# Altium footprint library con-molex-micro-fit-3_0.PCBLIB: 194 footprints (part 4 of 13)
Each footprint in its own frame and in the unit in brackets; x right, y up, seen from the top. Pads: shape width x height; smd on the part's side, far side on the other; paste and mask are expansions set on the pad; w line width, h text height; cw(c..) or ccw(c..) is an arc to the next point about the centre after c.
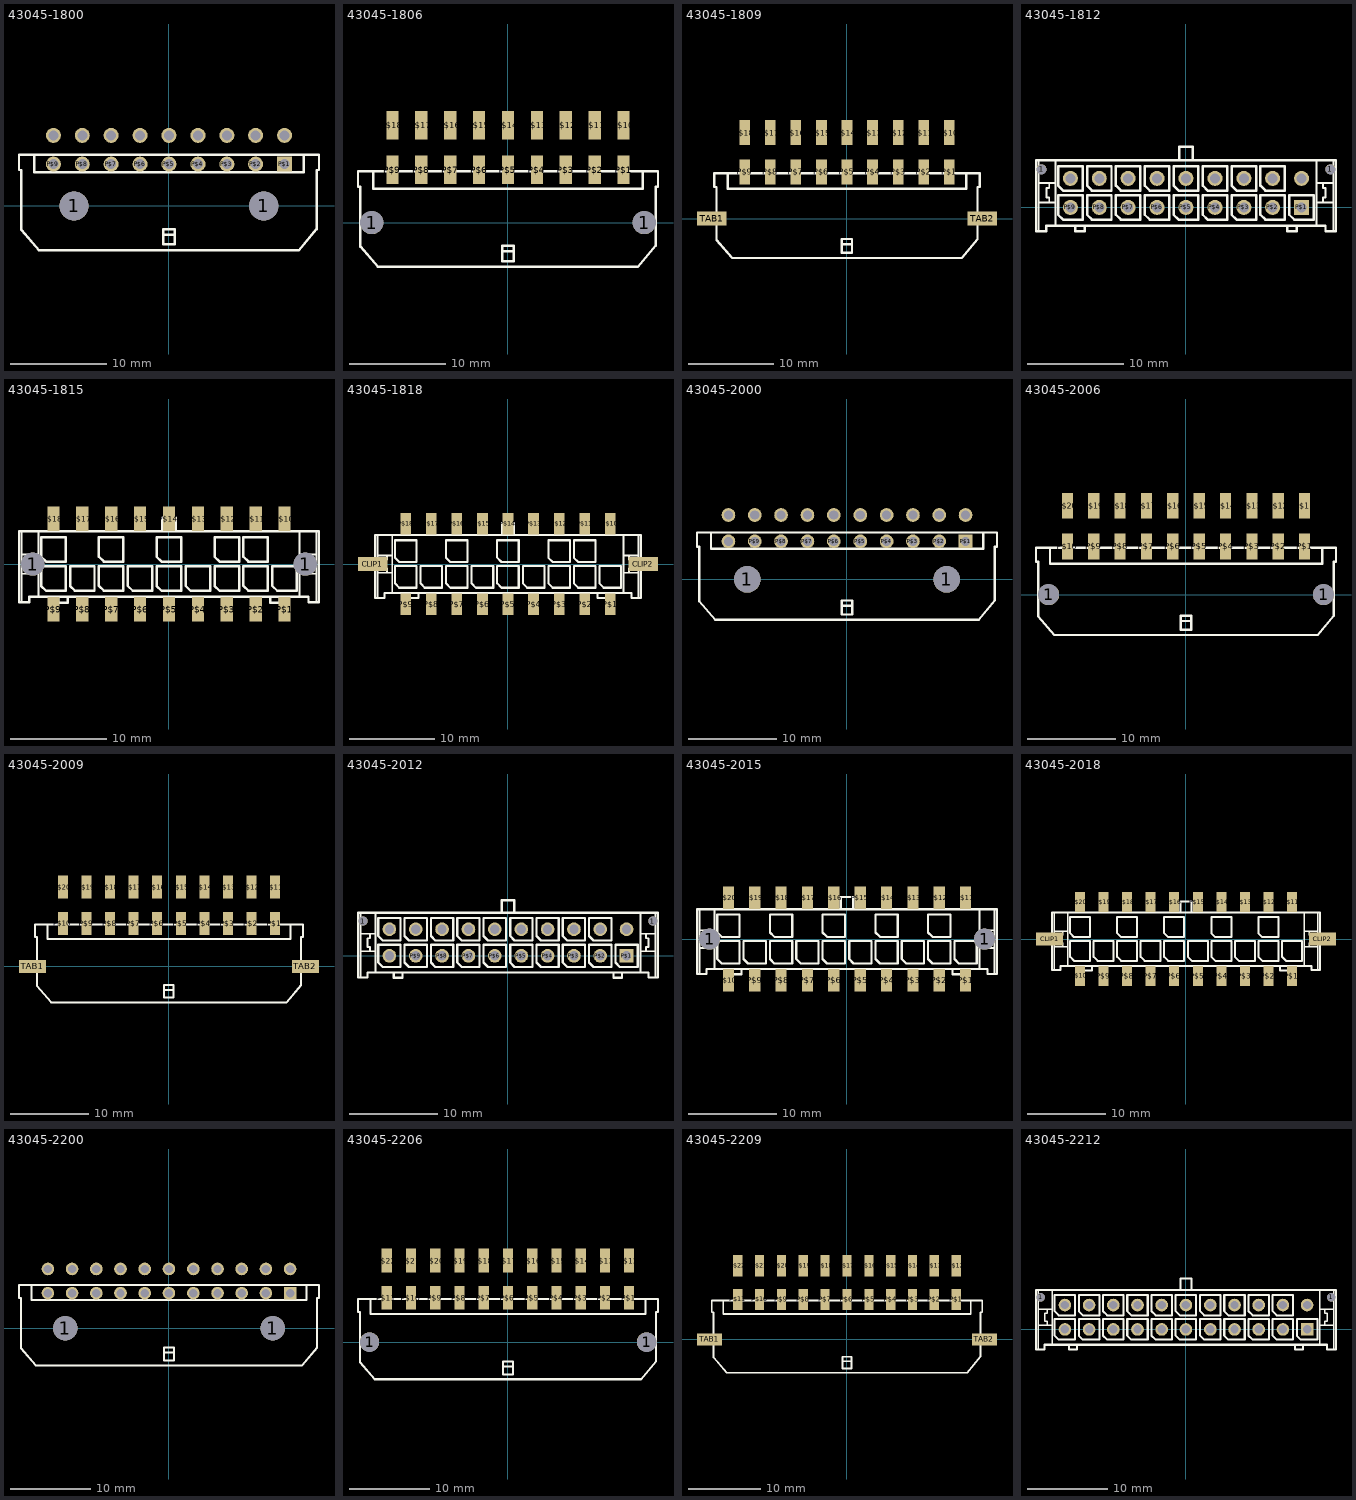
[diagram p3: the footprints below, top view; thin cyan lines are the x and y axes]

## 43045-1800 [mil]
pads (20):
  round 119 hole 119: 1(-387.8,0) 1(388,0)
  rect 61.5x61.5 hole 41: P$1(473,171)
  round 61.5 hole 41: P$2(355,171) P$3(237,171) P$4(119,171) P$5(0,171) P$6(-118.11,171) P$7(-236.22,171) P$8(-354.33,171) P$9(-472.44,171) P$10(473,289) P$11(355,289) P$12(237,289) P$13(119,289) P$14(0,289) P$15(-118.11,289) P$16(-236.22,289) P$17(-354.33,289) P$18(-472.44,289)
Top Overlay:
  lines w5: -190.16,210 -551.18,210 -189.96,210
  lines w10: -551.18,210 -613.19,210 -613.19,147 -603.35,147 -603.35,-98.43 -531.5,-181.1 532,-181.1 604,-94.49 604,147 614,147 614,210 552,210 ; -551.18,210 552,210 ; -551.18,210 -551.18,138 552,138 552,210 ; -23.62,-118.11 -23.62,-157.48 24,-157.48 24,-118.11 ; -23.62,-118.11 -23.62,-94.49 24,-94.49 24,-118.11 ; -23.62,-118.11 24,-118.11

## 43045-1806 [mil]
pads (20):
  round 95 hole 95: 1(-557.09,0) 1(558,0)
  rect 50x115 smd: P$1(473,216) P$2(355,216) P$3(237,216) P$4(119,216) P$5(0,216) P$6(-118.11,216) P$7(-236.22,216) P$8(-354.33,216) P$9(-472.44,216) P$10(473,398) P$11(355,398) P$12(237,398) P$13(119,398) P$14(0,398) P$15(-118.11,398) P$16(-236.22,398) P$17(-354.33,398) P$18(-472.44,398)
Top Overlay:
  lines w5: -190.16,210 -551.18,210 -189.96,210
  lines w10: -551.18,210 -613.19,210 -613.19,147 -603.35,147 -603.35,-98.43 -531.5,-181.1 532,-181.1 604,-94.49 604,147 614,147 614,210 552,210 ; -551.18,210 552,210 ; -551.18,210 -551.18,138 552,138 552,210 ; -23.62,-118.11 -23.62,-157.48 24,-157.48 24,-118.11 ; -23.62,-118.11 -23.62,-94.49 24,-94.49 24,-118.11 ; -23.62,-118.11 24,-118.11

## 43045-1809 [mil]
pads (20):
  rect 50x115 smd: P$1(473,216) P$2(355,216) P$3(237,216) P$4(119,216) P$5(0,216) P$6(-118.11,216) P$7(-236.22,216) P$8(-354.33,216) P$9(-472.44,216) P$10(473,398) P$11(355,398) P$12(237,398) P$13(119,398) P$14(0,398) P$15(-118.11,398) P$16(-236.22,398) P$17(-354.33,398) P$18(-472.44,398)
  rect 136x65 smd: TAB1(-625.2,0) TAB2(626,0)
Top Overlay:
  lines w5: -190.16,210 -551.18,210 -189.96,210
  lines w10: -551.18,210 -613.19,210 -613.19,147 -603.35,147 -603.35,-98.43 -531.5,-181.1 532,-181.1 604,-94.49 604,147 614,147 614,210 552,210 ; -551.18,210 552,210 ; -551.18,210 -551.18,138 552,138 552,210 ; -23.62,-118.11 -23.62,-157.48 24,-157.48 24,-118.11 ; -23.62,-118.11 -23.62,-94.49 24,-94.49 24,-118.11 ; -23.62,-118.11 24,-118.11

## 43045-1812 [mil]
pads (20):
  round 41 hole 41: 1(-590.55,156) 1(591,156)
  rect 61.5x61.5 hole 41: P$1(473,0)
  round 61.5 hole 41: P$2(355,0) P$3(237,0) P$4(119,0) P$5(0,0) P$6(-118.11,0) P$7(-236.22,0) P$8(-354.33,0) P$9(-472.44,0) P$10(473,119) P$11(355,119) P$12(237,119) P$13(119,119) P$14(0,119) P$15(-118.11,119) P$16(-236.22,119) P$17(-354.33,119) P$18(-472.44,119)
Top Overlay:
  lines w8: -602.36,-97.24 -602.36,20 ; -602.36,193 -602.36,99 ; -534.25,-74.8 -534.25,20 ; -534.25,193 -534.25,99 ; 535,-74.8 535,20 ; 535,193 535,99 ; 603,-97.24 603,20 ; 603,193 603,99 ; -602.36,20 -602.36,99 ; -602.36,20 -559.06,20 ; -602.36,99 -559.06,99 ; -559.06,20 -534.25,20 ; -559.06,20 -559.06,40 -570.87,40 -570.87,79 -559.06,79 -559.06,99 ; -559.06,99 -534.25,99 ; -534.25,20 -534.25,99 ; 535,20 535,99 ; 535,20 560,20 ; 535,99 560,99 ; 560,20 603,20 ; 560,20 560,40 571,40 571,79 560,79 560,99 ; 560,99 603,99 ; 603,20 603,99
  lines w10: -452.76,-74.8 -413.39,-74.8 ; -452.76,-74.8 -534.25,-74.8 -570.87,-74.8 -570.87,-97.24 -602.36,-97.24 -613.19,-97.24 -613.19,193 -602.36,193 -534.25,193 -27.56,193 ; -452.76,-74.8 -452.76,-98.43 -413.39,-98.43 -413.39,-74.8 ; -413.39,-74.8 414,-74.8 ; -27.56,193 28,193 ; -27.56,193 -27.56,249 28,249 28,193 ; 28,193 535,193 603,193 614,193 614,-97.24 603,-97.24 571,-97.24 571,-74.8 535,-74.8 453,-74.8 ; 414,-74.8 453,-74.8 ; 414,-74.8 414,-98.43 453,-98.43 453,-74.8 ; -522.44,-30 -522.44,50 -422.44,50 -422.44,-50 -502.44,-50 -522.44,-30 ; -522.44,89 -522.44,169 -422.44,169 -422.44,69 -502.44,69 -522.44,89 ; -404.33,-30 -404.33,50 -304.33,50 -304.33,-50 -384.33,-50 -404.33,-30 ; -404.33,89 -404.33,169 -304.33,169 -304.33,69 -384.33,69 -404.33,89 ; -286.22,-30 -286.22,50 -186.22,50 -186.22,-50 -266.22,-50 -286.22,-30 ; -286.22,89 -286.22,169 -186.22,169 -186.22,69 -266.22,69 -286.22,89 ; -168.11,-30 -168.11,50 -68.11,50 -68.11,-50 -148.11,-50 -168.11,-30 ; -168.11,89 -168.11,169 -68.11,169 -68.11,69 -148.11,69 -168.11,89 ; -50,-30 -50,50 50,50 50,-50 -30,-50 -50,-30 ; -50,89 -50,169 50,169 50,69 -30,69 -50,89 ; 69,-30 69,50 169,50 169,-50 89,-50 69,-30 ; 69,89 69,169 169,169 169,69 89,69 69,89 ; 187,-30 187,50 287,50 287,-50 207,-50 187,-30 ; 187,89 187,169 287,169 287,69 207,69 187,89 ; 305,-30 305,50 405,50 405,-50 325,-50 305,-30 ; 305,89 305,169 405,169 405,69 325,69 305,89 ; 423,-30 423,50 523,50 523,-50 443,-50 423,-30
Bottom Overlay:
  lines w10: 423,69 423,169 523,169 523,89 503,69 423,69

## 43045-1815 [mil]
pads (20):
  round 95 hole 95: 1(-557.09,0) 1(558,0)
  rect 50x100 smd: P$1(473,-185.04) P$2(355,-185.04) P$3(237,-185.04) P$4(119,-185.04) P$5(0,-185.04) P$6(-118.11,-185.04) P$7(-236.22,-185.04) P$8(-354.33,-185.04) P$9(-472.44,-185.04) P$10(473,186) P$11(355,186) P$12(237,186) P$13(119,186) P$14(0,186) P$15(-118.11,186) P$16(-236.22,186) P$17(-354.33,186) P$18(-472.44,186)
Top Overlay:
  lines w8: -602.36,-156.3 -602.36,-39.37 ; -602.36,134 -602.36,40 ; -534.25,-133.86 -534.25,-39.37 ; -534.25,134 -534.25,40 ; 535,-133.86 535,-39.37 ; 535,134 535,40 ; 603,-156.3 603,-39.37 ; 603,134 603,40 ; -602.36,-39.37 -602.36,40 ; -602.36,-39.37 -559.06,-39.37 ; -602.36,40 -559.06,40 ; -559.06,-39.37 -534.25,-39.37 ; -559.06,-39.37 -559.06,-19.68 -570.87,-19.68 -570.87,20 -559.06,20 -559.06,40 ; -559.06,40 -534.25,40 ; -534.25,-39.37 -534.25,40 ; 535,-39.37 535,40 ; 535,-39.37 560,-39.37 ; 535,40 560,40 ; 560,-39.37 603,-39.37 ; 560,-39.37 560,-19.68 571,-19.68 571,20 560,20 560,40 ; 560,40 603,40 ; 603,-39.37 603,40
  lines w10: -452.76,-133.86 -413.39,-133.86 ; -452.76,-133.86 -534.25,-133.86 -570.87,-133.86 -570.87,-156.3 -602.36,-156.3 -613.19,-156.3 -613.19,134 -602.36,134 -534.25,134 -27.56,134 ; -452.76,-133.86 -452.76,-157.48 -413.39,-157.48 -413.39,-133.86 ; -413.39,-133.86 414,-133.86 ; -27.56,134 28,134 ; -27.56,134 -27.56,189 28,189 28,134 ; 28,134 535,134 603,134 614,134 614,-156.3 603,-156.3 571,-156.3 571,-133.86 535,-133.86 453,-133.86 ; 414,-133.86 453,-133.86 ; 414,-133.86 414,-157.48 453,-157.48 453,-133.86 ; -522.44,-89.06 -522.44,-9.06 -422.44,-9.06 -422.44,-109.06 -502.44,-109.06 -522.44,-89.06 ; -522.44,30 -522.44,110 -422.44,110 -422.44,10 -502.44,10 -522.44,30 ; -404.33,-89.06 -404.33,-9.06 -304.33,-9.06 -304.33,-109.06 -384.33,-109.06 -404.33,-89.06 ; -286.22,-89.06 -286.22,-9.06 -186.22,-9.06 -186.22,-109.06 -266.22,-109.06 -286.22,-89.06 ; -286.22,30 -286.22,110 -186.22,110 -186.22,10 -266.22,10 -286.22,30 ; -168.11,-89.06 -168.11,-9.06 -68.11,-9.06 -68.11,-109.06 -148.11,-109.06 -168.11,-89.06 ; -50,-89.06 -50,-9.06 50,-9.06 50,-109.06 -30,-109.06 -50,-89.06 ; -50,30 -50,110 50,110 50,10 -30,10 -50,30 ; 69,-89.06 69,-9.06 169,-9.06 169,-109.06 89,-109.06 69,-89.06 ; 187,-89.06 187,-9.06 287,-9.06 287,-109.06 207,-109.06 187,-89.06 ; 187,30 187,110 287,110 287,10 207,10 187,30 ; 305,-89.06 305,-9.06 405,-9.06 405,-109.06 325,-109.06 305,-89.06 ; 305,30 305,110 405,110 405,10 325,10 305,30 ; 423,-89.06 423,-9.06 523,-9.06 523,-109.06 443,-109.06 423,-89.06
Bottom Overlay:
  lines w10: -404.33,10 -404.33,110 -304.33,110 -304.33,30 -324.33,10 -404.33,10 ; -168.11,10 -168.11,110 -68.11,110 -68.11,30 -88.11,10 -168.11,10 ; 69,10 69,110 169,110 169,30 149,10 69,10 ; 423,10 423,110 523,110 523,30 503,10 423,10

## 43045-1818 [mil]
pads (20):
  rect 136x65 smd: CLIP1(-625.2,0) CLIP2(626,0)
  rect 50x100 smd: P$1(473,-185.04) P$2(355,-185.04) P$3(237,-185.04) P$4(119,-185.04) P$5(0,-185.04) P$6(-118.11,-185.04) P$7(-236.22,-185.04) P$8(-354.33,-185.04) P$9(-472.44,-185.04) P$10(473,186) P$11(355,186) P$12(237,186) P$13(119,186) P$14(0,186) P$15(-118.11,186) P$16(-236.22,186) P$17(-354.33,186) P$18(-472.44,186)
Top Overlay:
  lines w8: -602.36,-156.3 -602.36,-39.37 ; -602.36,134 -602.36,40 ; -534.25,-133.86 -534.25,-39.37 ; -534.25,134 -534.25,40 ; 535,-133.86 535,-39.37 ; 535,134 535,40 ; 603,-156.3 603,-39.37 ; 603,134 603,40 ; -602.36,-39.37 -602.36,40 ; -602.36,-39.37 -559.06,-39.37 ; -602.36,40 -559.06,40 ; -559.06,-39.37 -534.25,-39.37 ; -559.06,-39.37 -559.06,-19.68 -570.87,-19.68 -570.87,20 -559.06,20 -559.06,40 ; -559.06,40 -534.25,40 ; -534.25,-39.37 -534.25,40 ; 535,-39.37 535,40 ; 535,-39.37 560,-39.37 ; 535,40 560,40 ; 560,-39.37 603,-39.37 ; 560,-39.37 560,-19.68 571,-19.68 571,20 560,20 560,40 ; 560,40 603,40 ; 603,-39.37 603,40
  lines w10: -452.76,-133.86 -413.39,-133.86 ; -452.76,-133.86 -534.25,-133.86 -570.87,-133.86 -570.87,-156.3 -602.36,-156.3 -613.19,-156.3 -613.19,134 -602.36,134 -534.25,134 -27.56,134 ; -452.76,-133.86 -452.76,-157.48 -413.39,-157.48 -413.39,-133.86 ; -413.39,-133.86 414,-133.86 ; -27.56,134 28,134 ; -27.56,134 -27.56,189 28,189 28,134 ; 28,134 535,134 603,134 614,134 614,-156.3 603,-156.3 571,-156.3 571,-133.86 535,-133.86 453,-133.86 ; 414,-133.86 453,-133.86 ; 414,-133.86 414,-157.48 453,-157.48 453,-133.86 ; -522.44,-89.06 -522.44,-9.06 -422.44,-9.06 -422.44,-109.06 -502.44,-109.06 -522.44,-89.06 ; -522.44,30 -522.44,110 -422.44,110 -422.44,10 -502.44,10 -522.44,30 ; -404.33,-89.06 -404.33,-9.06 -304.33,-9.06 -304.33,-109.06 -384.33,-109.06 -404.33,-89.06 ; -286.22,-89.06 -286.22,-9.06 -186.22,-9.06 -186.22,-109.06 -266.22,-109.06 -286.22,-89.06 ; -286.22,30 -286.22,110 -186.22,110 -186.22,10 -266.22,10 -286.22,30 ; -168.11,-89.06 -168.11,-9.06 -68.11,-9.06 -68.11,-109.06 -148.11,-109.06 -168.11,-89.06 ; -50,-89.06 -50,-9.06 50,-9.06 50,-109.06 -30,-109.06 -50,-89.06 ; -50,30 -50,110 50,110 50,10 -30,10 -50,30 ; 69,-89.06 69,-9.06 169,-9.06 169,-109.06 89,-109.06 69,-89.06 ; 187,-89.06 187,-9.06 287,-9.06 287,-109.06 207,-109.06 187,-89.06 ; 187,30 187,110 287,110 287,10 207,10 187,30 ; 305,-89.06 305,-9.06 405,-9.06 405,-109.06 325,-109.06 305,-89.06 ; 305,30 305,110 405,110 405,10 325,10 305,30 ; 423,-89.06 423,-9.06 523,-9.06 523,-109.06 443,-109.06 423,-89.06
Bottom Overlay:
  lines w10: -404.33,10 -404.33,110 -304.33,110 -304.33,30 -324.33,10 -404.33,10 ; -168.11,10 -168.11,110 -68.11,110 -68.11,30 -88.11,10 -168.11,10 ; 69,10 69,110 169,110 169,30 149,10 69,10 ; 423,10 423,110 523,110 523,30 503,10 423,10

## 43045-2000 [mil]
pads (22):
  round 119 hole 119: 1(-446.85,0) 1(447,0)
  rect 61.5x61.5 hole 41: P$1(532,171)
  round 61.5 hole 41: P$2(414,171) P$3(296,171) P$4(178,171) P$5(60,171) P$6(-59.06,171) P$7(-177.17,171) P$8(-295.28,171) P$9(-413.39,171) P$10(-531.5,171) P$11(532,289) P$12(414,289) P$13(296,289) P$14(178,289) P$15(60,289) P$16(-59.06,289) P$17(-177.17,289) P$18(-295.28,289) P$19(-413.39,289) P$20(-531.5,289)
Top Overlay:
  lines w5: -190.16,210 -610.24,210 -189.96,210
  lines w10: -610.24,210 -672.44,210 -672.44,147 -662.4,147 -662.4,-98.43 -590.55,-181.1 591,-181.1 663,-94.49 663,147 673,147 673,210 611,210 ; -610.24,210 611,210 ; -610.24,210 -610.24,138 611,138 611,210 ; -23.62,-118.11 -23.62,-157.48 24,-157.48 24,-118.11 ; -23.62,-118.11 -23.62,-94.49 24,-94.49 24,-118.11 ; -23.62,-118.11 24,-118.11

## 43045-2006 [mil]
pads (22):
  round 95 hole 95: 1(-616.14,0) 1(617,0)
  rect 50x115 smd: P$1(532,216) P$2(414,216) P$3(296,216) P$4(178,216) P$5(60,216) P$6(-59.06,216) P$7(-177.17,216) P$8(-295.28,216) P$9(-413.39,216) P$10(-531.5,216) P$11(532,398) P$12(414,398) P$13(296,398) P$14(178,398) P$15(60,398) P$16(-59.06,398) P$17(-177.17,398) P$18(-295.28,398) P$19(-413.39,398) P$20(-531.5,398)
Top Overlay:
  lines w5: -190.16,210 -610.24,210 -189.96,210
  lines w10: -610.24,210 -672.44,210 -672.44,147 -662.4,147 -662.4,-98.43 -590.55,-181.1 591,-181.1 663,-94.49 663,147 673,147 673,210 611,210 ; -610.24,210 611,210 ; -610.24,210 -610.24,138 611,138 611,210 ; -23.62,-118.11 -23.62,-157.48 24,-157.48 24,-118.11 ; -23.62,-118.11 -23.62,-94.49 24,-94.49 24,-118.11 ; -23.62,-118.11 24,-118.11

## 43045-2009 [mil]
pads (22):
  rect 50x115 smd: P$1(532,216) P$2(414,216) P$3(296,216) P$4(178,216) P$5(60,216) P$6(-59.06,216) P$7(-177.17,216) P$8(-295.28,216) P$9(-413.39,216) P$10(-531.5,216) P$11(532,398) P$12(414,398) P$13(296,398) P$14(178,398) P$15(60,398) P$16(-59.06,398) P$17(-177.17,398) P$18(-295.28,398) P$19(-413.39,398) P$20(-531.5,398)
  rect 136x65 smd: TAB1(-684.25,0) TAB2(685,0)
Top Overlay:
  lines w5: -190.16,210 -610.24,210 -189.96,210
  lines w10: -610.24,210 -672.44,210 -672.44,147 -662.4,147 -662.4,-98.43 -590.55,-181.1 591,-181.1 663,-94.49 663,147 673,147 673,210 611,210 ; -610.24,210 611,210 ; -610.24,210 -610.24,138 611,138 611,210 ; -23.62,-118.11 -23.62,-157.48 24,-157.48 24,-118.11 ; -23.62,-118.11 -23.62,-94.49 24,-94.49 24,-118.11 ; -23.62,-118.11 24,-118.11

## 43045-2012 [mil]
pads (22):
  round 41 hole 41: 1(-649.61,156) 1(650,156)
  rect 61.5x61.5 hole 41: P$1(532,0)
  round 61.5 hole 41: P$2(414,0) P$3(296,0) P$4(178,0) P$5(60,0) P$6(-59.06,0) P$7(-177.17,0) P$8(-295.28,0) P$9(-413.39,0) P$10(-531.5,0) P$11(532,119) P$12(414,119) P$13(296,119) P$14(178,119) P$15(60,119) P$16(-59.06,119) P$17(-177.17,119) P$18(-295.28,119) P$19(-413.39,119) P$20(-531.5,119)
Top Overlay:
  drawing of 156 lines, arcs and shapes, not listed
Bottom Overlay:
  lines w10: 482,69 482,169 582,169 582,89 562,69 482,69

## 43045-2015 [mil]
pads (22):
  round 95 hole 95: 1(-616.14,0) 1(617,0)
  rect 50x100 smd: P$1(532,-185.04) P$2(414,-185.04) P$3(296,-185.04) P$4(178,-185.04) P$5(60,-185.04) P$6(-59.06,-185.04) P$7(-177.17,-185.04) P$8(-295.28,-185.04) P$9(-413.39,-185.04) P$10(-531.5,-185.04) P$11(532,186) P$12(414,186) P$13(296,186) P$14(178,186) P$15(60,186) P$16(-59.06,186) P$17(-177.17,186) P$18(-295.28,186) P$19(-413.39,186) P$20(-531.5,186)
Top Overlay:
  lines w8: -661.42,-156.3 -661.42,-39.37 ; -661.42,134 -661.42,40 ; -593.31,-133.86 -593.31,-39.37 ; -593.31,134 -593.31,40 ; 594,-133.86 594,-39.37 ; 594,134 594,40 ; 662,-156.3 662,-39.37 ; 662,134 662,40 ; -661.42,-39.37 -661.42,40 ; -661.42,-39.37 -618.11,-39.37 ; -661.42,40 -618.11,40 ; -618.11,-39.37 -593.31,-39.37 ; -618.11,-39.37 -618.11,-19.68 -629.92,-19.68 -629.92,20 -618.11,20 -618.11,40 ; -618.11,40 -593.31,40 ; -593.31,-39.37 -593.31,40 ; 594,-39.37 594,40 ; 594,-39.37 619,-39.37 ; 594,40 619,40 ; 619,-39.37 662,-39.37 ; 619,-39.37 619,-19.68 630,-19.68 630,20 619,20 619,40 ; 619,40 662,40 ; 662,-39.37 662,40
  lines w10: -511.81,-133.86 -472.44,-133.86 ; -511.81,-133.86 -593.31,-133.86 -629.92,-133.86 -629.92,-156.3 -661.42,-156.3 -672.24,-156.3 -672.24,134 -661.42,134 -593.31,134 -27.56,134 ; -511.81,-133.86 -511.81,-157.48 -472.44,-157.48 -472.44,-133.86 ; -472.44,-133.86 473,-133.86 ; -27.56,134 28,134 ; -27.56,134 -27.56,189 28,189 28,134 ; 28,134 594,134 662,134 673,134 673,-156.3 662,-156.3 630,-156.3 630,-133.86 594,-133.86 512,-133.86 ; 473,-133.86 512,-133.86 ; 473,-133.86 473,-157.48 512,-157.48 512,-133.86 ; -581.5,-89.06 -581.5,-9.06 -481.5,-9.06 -481.5,-109.06 -561.5,-109.06 -581.5,-89.06 ; -581.5,30 -581.5,110 -481.5,110 -481.5,10 -561.5,10 -581.5,30 ; -463.39,-89.06 -463.39,-9.06 -363.39,-9.06 -363.39,-109.06 -443.39,-109.06 -463.39,-89.06 ; -345.28,-89.06 -345.28,-9.06 -245.28,-9.06 -245.28,-109.06 -325.28,-109.06 -345.28,-89.06 ; -345.28,30 -345.28,110 -245.28,110 -245.28,10 -325.28,10 -345.28,30 ; -227.17,-89.06 -227.17,-9.06 -127.17,-9.06 -127.17,-109.06 -207.17,-109.06 -227.17,-89.06 ; -109.06,-89.06 -109.06,-9.06 -9.06,-9.06 -9.06,-109.06 -89.06,-109.06 -109.06,-89.06 ; -109.06,30 -109.06,110 -9.06,110 -9.06,10 -89.06,10 -109.06,30 ; 10,-89.06 10,-9.06 110,-9.06 110,-109.06 30,-109.06 10,-89.06 ; 128,-89.06 128,-9.06 228,-9.06 228,-109.06 148,-109.06 128,-89.06 ; 128,30 128,110 228,110 228,10 148,10 128,30 ; 246,-89.06 246,-9.06 346,-9.06 346,-109.06 266,-109.06 246,-89.06 ; 364,-89.06 364,-9.06 464,-9.06 464,-109.06 384,-109.06 364,-89.06 ; 364,30 364,110 464,110 464,10 384,10 364,30 ; 482,-89.06 482,-9.06 582,-9.06 582,-109.06 502,-109.06 482,-89.06
Bottom Overlay:
  lines w10: -463.39,10 -463.39,110 -363.39,110 -363.39,30 -383.39,10 -463.39,10 ; -227.17,10 -227.17,110 -127.17,110 -127.17,30 -147.17,10 -227.17,10 ; 10,10 10,110 110,110 110,30 90,10 10,10 ; 246,10 246,110 346,110 346,30 326,10 246,10 ; 482,10 482,110 582,110 582,30 562,10 482,10

## 43045-2018 [mil]
pads (22):
  rect 136x65 smd: CLIP1(-684.25,0) CLIP2(685,0)
  rect 50x100 smd: P$1(532,-185.04) P$2(414,-185.04) P$3(296,-185.04) P$4(178,-185.04) P$5(60,-185.04) P$6(-59.06,-185.04) P$7(-177.17,-185.04) P$8(-295.28,-185.04) P$9(-413.39,-185.04) P$10(-531.5,-185.04) P$11(532,186) P$12(414,186) P$13(296,186) P$14(178,186) P$15(60,186) P$16(-59.06,186) P$17(-177.17,186) P$18(-295.28,186) P$19(-413.39,186) P$20(-531.5,186)
Top Overlay:
  lines w8: -661.42,-156.3 -661.42,-39.37 ; -661.42,134 -661.42,40 ; -593.31,-133.86 -593.31,-39.37 ; -593.31,134 -593.31,40 ; 594,-133.86 594,-39.37 ; 594,134 594,40 ; 662,-156.3 662,-39.37 ; 662,134 662,40 ; -661.42,-39.37 -661.42,40 ; -661.42,-39.37 -618.11,-39.37 ; -661.42,40 -618.11,40 ; -618.11,-39.37 -593.31,-39.37 ; -618.11,-39.37 -618.11,-19.68 -629.92,-19.68 -629.92,20 -618.11,20 -618.11,40 ; -618.11,40 -593.31,40 ; -593.31,-39.37 -593.31,40 ; 594,-39.37 594,40 ; 594,-39.37 619,-39.37 ; 594,40 619,40 ; 619,-39.37 662,-39.37 ; 619,-39.37 619,-19.68 630,-19.68 630,20 619,20 619,40 ; 619,40 662,40 ; 662,-39.37 662,40
  lines w10: -511.81,-133.86 -472.44,-133.86 ; -511.81,-133.86 -593.31,-133.86 -629.92,-133.86 -629.92,-156.3 -661.42,-156.3 -672.24,-156.3 -672.24,134 -661.42,134 -593.31,134 -27.56,134 ; -511.81,-133.86 -511.81,-157.48 -472.44,-157.48 -472.44,-133.86 ; -472.44,-133.86 473,-133.86 ; -27.56,134 28,134 ; -27.56,134 -27.56,189 28,189 28,134 ; 28,134 594,134 662,134 673,134 673,-156.3 662,-156.3 630,-156.3 630,-133.86 594,-133.86 512,-133.86 ; 473,-133.86 512,-133.86 ; 473,-133.86 473,-157.48 512,-157.48 512,-133.86 ; -581.5,-89.06 -581.5,-9.06 -481.5,-9.06 -481.5,-109.06 -561.5,-109.06 -581.5,-89.06 ; -581.5,30 -581.5,110 -481.5,110 -481.5,10 -561.5,10 -581.5,30 ; -463.39,-89.06 -463.39,-9.06 -363.39,-9.06 -363.39,-109.06 -443.39,-109.06 -463.39,-89.06 ; -345.28,-89.06 -345.28,-9.06 -245.28,-9.06 -245.28,-109.06 -325.28,-109.06 -345.28,-89.06 ; -345.28,30 -345.28,110 -245.28,110 -245.28,10 -325.28,10 -345.28,30 ; -227.17,-89.06 -227.17,-9.06 -127.17,-9.06 -127.17,-109.06 -207.17,-109.06 -227.17,-89.06 ; -109.06,-89.06 -109.06,-9.06 -9.06,-9.06 -9.06,-109.06 -89.06,-109.06 -109.06,-89.06 ; -109.06,30 -109.06,110 -9.06,110 -9.06,10 -89.06,10 -109.06,30 ; 10,-89.06 10,-9.06 110,-9.06 110,-109.06 30,-109.06 10,-89.06 ; 128,-89.06 128,-9.06 228,-9.06 228,-109.06 148,-109.06 128,-89.06 ; 128,30 128,110 228,110 228,10 148,10 128,30 ; 246,-89.06 246,-9.06 346,-9.06 346,-109.06 266,-109.06 246,-89.06 ; 364,-89.06 364,-9.06 464,-9.06 464,-109.06 384,-109.06 364,-89.06 ; 364,30 364,110 464,110 464,10 384,10 364,30 ; 482,-89.06 482,-9.06 582,-9.06 582,-109.06 502,-109.06 482,-89.06
Bottom Overlay:
  lines w10: -463.39,10 -463.39,110 -363.39,110 -363.39,30 -383.39,10 -463.39,10 ; -227.17,10 -227.17,110 -127.17,110 -127.17,30 -147.17,10 -227.17,10 ; 10,10 10,110 110,110 110,30 90,10 10,10 ; 246,10 246,110 346,110 346,30 326,10 246,10 ; 482,10 482,110 582,110 582,30 562,10 482,10

## 43045-2200 [mil]
pads (24):
  round 119 hole 119: 1(-505.91,0) 1(506,0)
  rect 61.5x61.5 hole 41: P$1(591,171)
  round 61.5 hole 41: P$2(473,171) P$3(355,171) P$4(237,171) P$5(119,171) P$6(0,171) P$7(-118.11,171) P$8(-236.22,171) P$9(-354.33,171) P$10(-472.44,171) P$11(-590.55,171) P$12(591,289) P$13(473,289) P$14(355,289) P$15(237,289) P$16(119,289) P$17(0,289) P$18(-118.11,289) P$19(-236.22,289) P$20(-354.33,289) P$21(-472.44,289) P$22(-590.55,289)
Top Overlay:
  lines w5: -190.16,210 -669.29,210 -189.96,210
  lines w10: -669.29,210 -731.3,210 -731.3,147 -721.46,147 -721.46,-98.43 -649.61,-181.1 650,-181.1 722,-94.49 722,147 732,147 732,210 670,210 ; -669.29,210 670,210 ; -669.29,210 -669.29,138 670,138 670,210 ; -23.62,-118.11 -23.62,-157.48 24,-157.48 24,-118.11 ; -23.62,-118.11 -23.62,-94.49 24,-94.49 24,-118.11 ; -23.62,-118.11 24,-118.11

## 43045-2206 [mil]
pads (24):
  round 95 hole 95: 1(-675.2,0) 1(676,0)
  rect 50x115 smd: P$1(591,216) P$2(473,216) P$3(355,216) P$4(237,216) P$5(119,216) P$6(0,216) P$7(-118.11,216) P$8(-236.22,216) P$9(-354.33,216) P$10(-472.44,216) P$11(-590.55,216) P$12(591,398) P$13(473,398) P$14(355,398) P$15(237,398) P$16(119,398) P$17(0,398) P$18(-118.11,398) P$19(-236.22,398) P$20(-354.33,398) P$21(-472.44,398) P$22(-590.55,398)
Top Overlay:
  lines w5: -190.16,210 -669.29,210 -189.96,210
  lines w10: -669.29,210 -731.3,210 -731.3,147 -721.46,147 -721.46,-98.43 -649.61,-181.1 650,-181.1 722,-94.49 722,147 732,147 732,210 670,210 ; -669.29,210 670,210 ; -669.29,210 -669.29,138 670,138 670,210 ; -23.62,-118.11 -23.62,-157.48 24,-157.48 24,-118.11 ; -23.62,-118.11 -23.62,-94.49 24,-94.49 24,-118.11 ; -23.62,-118.11 24,-118.11

## 43045-2209 [mil]
pads (24):
  rect 50x115 smd: P$1(591,216) P$2(473,216) P$3(355,216) P$4(237,216) P$5(119,216) P$6(0,216) P$7(-118.11,216) P$8(-236.22,216) P$9(-354.33,216) P$10(-472.44,216) P$11(-590.55,216) P$12(591,398) P$13(473,398) P$14(355,398) P$15(237,398) P$16(119,398) P$17(0,398) P$18(-118.11,398) P$19(-236.22,398) P$20(-354.33,398) P$21(-472.44,398) P$22(-590.55,398)
  rect 136x65 smd: TAB1(-743.31,0) TAB2(744,0)
Top Overlay:
  lines w5: -190.16,210 -669.29,210 -189.96,210
  lines w10: -669.29,210 -731.3,210 -731.3,147 -721.46,147 -721.46,-98.43 -649.61,-181.1 650,-181.1 722,-94.49 722,147 732,147 732,210 670,210 ; -669.29,210 670,210 ; -669.29,210 -669.29,138 670,138 670,210 ; -23.62,-118.11 -23.62,-157.48 24,-157.48 24,-118.11 ; -23.62,-118.11 -23.62,-94.49 24,-94.49 24,-118.11 ; -23.62,-118.11 24,-118.11

## 43045-2212 [mil]
pads (24):
  round 41 hole 41: 1(-708.66,156) 1(709,156)
  rect 61.5x61.5 hole 41: P$1(591,0)
  round 61.5 hole 41: P$2(473,0) P$3(355,0) P$4(237,0) P$5(119,0) P$6(0,0) P$7(-118.11,0) P$8(-236.22,0) P$9(-354.33,0) P$10(-472.44,0) P$11(-590.55,0) P$12(591,119) P$13(473,119) P$14(355,119) P$15(237,119) P$16(119,119) P$17(0,119) P$18(-118.11,119) P$19(-236.22,119) P$20(-354.33,119) P$21(-472.44,119) P$22(-590.55,119)
Top Overlay:
  drawing of 166 lines, arcs and shapes, not listed
Bottom Overlay:
  lines w10: 541,69 541,169 641,169 641,89 621,69 541,69